# Altium footprint library rcl.PCBLIB: 487 footprints (part 17 of 31)
Each footprint in its own frame and in the unit in brackets; x right, y up, seen from the top. Pads: shape width x height; smd on the part's side, far side on the other; paste and mask are expansions set on the pad; w line width, h text height; cw(c..) or ccw(c..) is an arc to the next point about the centre after c.
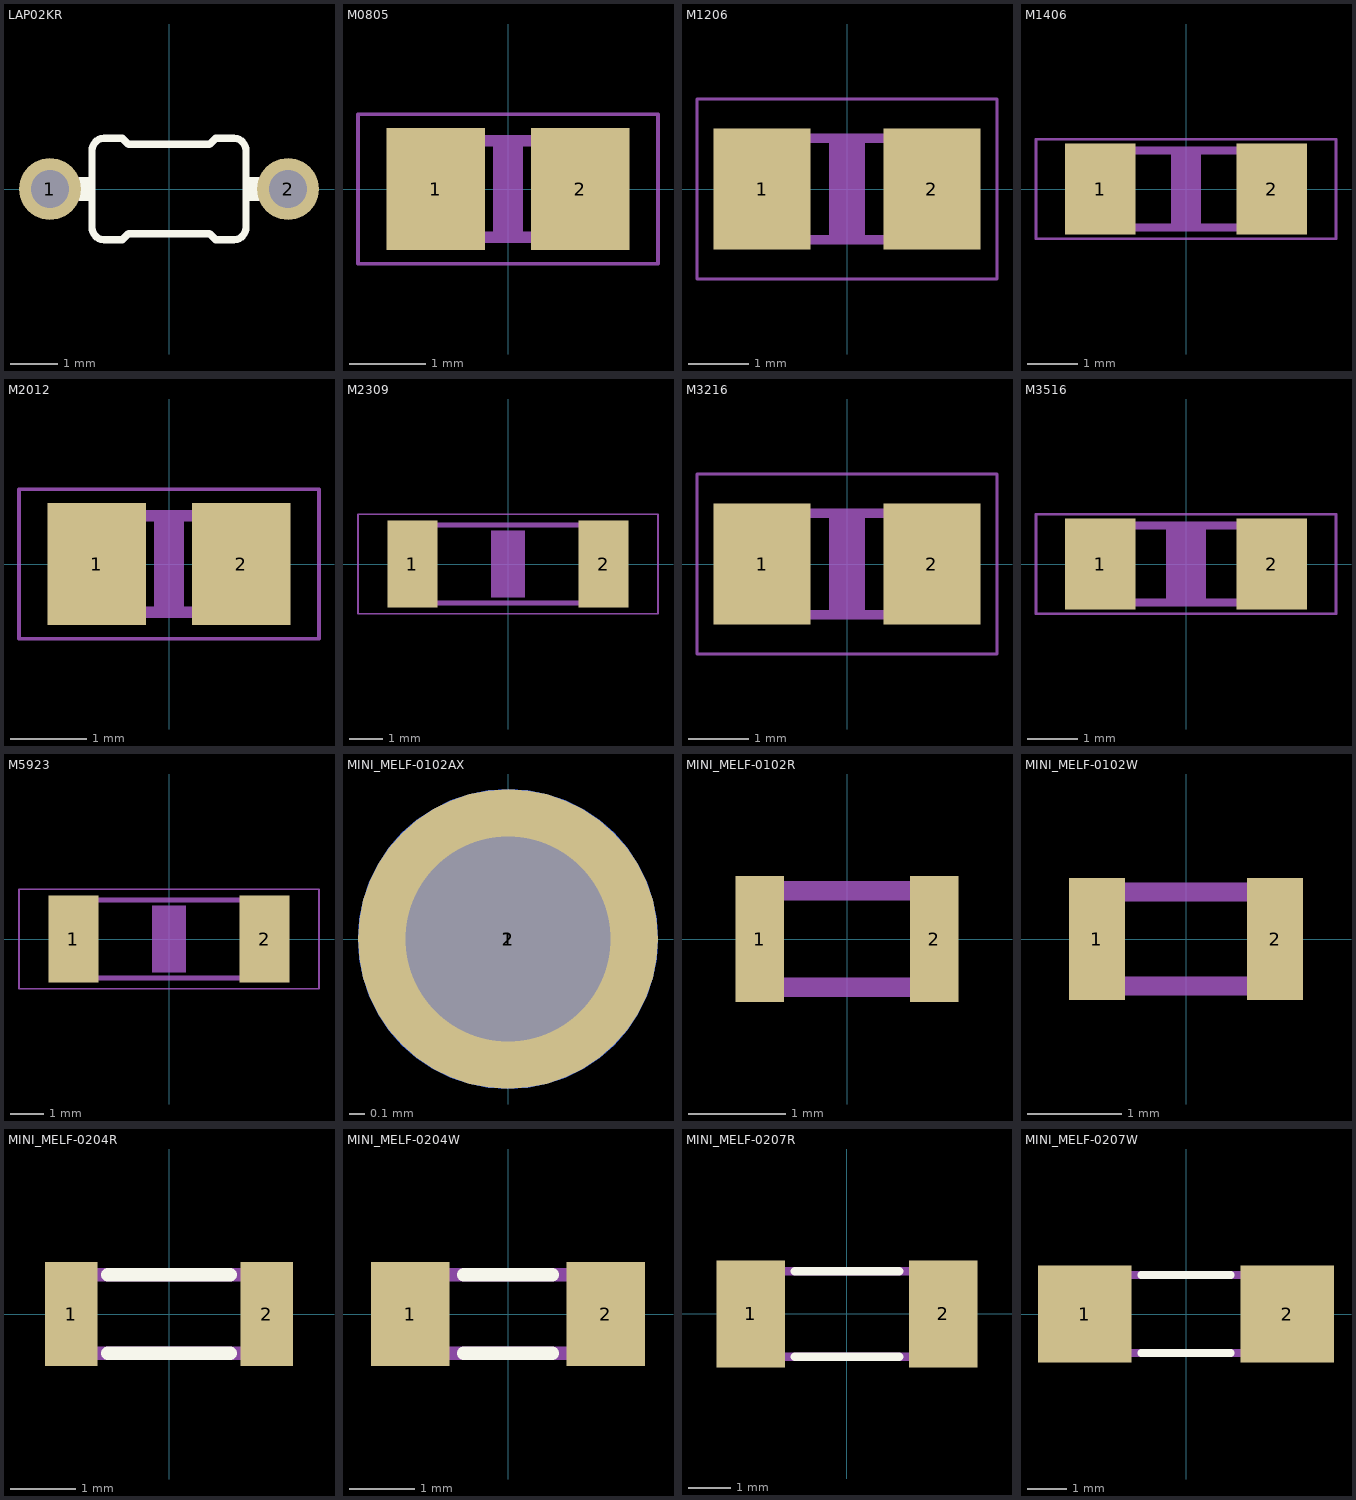
[diagram p16: the footprints below, top view; thin cyan lines are the x and y axes]

## LAP02KR [mil]
pads (2):
  round 51.18 hole 31.5: 1(-98.43,0) 2(98.43,0)
Top Overlay:
  rectangle: -74.8,-10 -63.58,10
  rectangle: 63.58,-10 74.8,10
  lines w6: -63.58,-31.97 ccw(c-53.58,-31.97) -53.58,-41.97 -38.58,-41.97 -33.58,-36.97 33.58,-36.97 38.58,-41.97 53.58,-41.97 ccw(c53.58,-31.97) 63.58,-31.97 63.58,31.97 ccw(c53.58,31.97) 53.58,41.97 38.58,41.97 33.58,36.97 -33.58,36.97 -38.58,41.97 -53.58,41.97 ccw(c-53.58,31.97) -63.58,31.97 -63.58,-31.97
Mechanical 16:
  lines w20: -98.43,0 -75,0 ; 75,0 98.43,0

## M0805 [mil]
pads (2):
  rect 51.18x62.99 smd: 1(-37.4,0) 2(37.4,0)
Mechanical 6:
  rectangle: -7.87,-23.62 7.87,23.62
Mechanical 16:
  rectangle: 27,-28 41,28
  rectangle: -41,-28 -27,28
  lines w6: -28,-25 28,-25 ; -28,25 28,25
Mechanical 27:
  lines w2: -77.68,-38.7 -77.68,38.7 77.68,38.7 77.68,-38.7 -77.68,-38.7
3D body "User Library-Generic 0805 Chip Resistor.STEP": height 29.53, standoff 0, extent -45.27,-26.57 45.28,26.59

## M1206 [mm]
pads (2):
  rect 1.6x2 smd: 1(-1.4,0) 2(1.4,0)
Mechanical 6:
  rectangle: -0.3,-0.8 0.3,0.8
Mechanical 16:
  rectangle: -1.702,-0.914 -1.118,0.914
  rectangle: 1.118,-0.914 1.702,0.914
  lines w0.152: -1.143,-0.838 1.143,-0.838 ; -1.143,0.838 1.143,0.838
Mechanical 27:
  lines w0.051: -2.473,-1.483 2.473,-1.483 2.473,1.483 -2.473,1.483 -2.473,-1.483

## M1406 [mil]
pads (2):
  rect 55.12x70.87 smd: 1(-66.93,0) 2(66.93,0)
Mechanical 6:
  rectangle: -11.81,-27.56 11.81,27.56
Mechanical 16:
  rectangle: 51,-33 73,33
  rectangle: -73,-33 -51,33
  lines w6: -52,-30 52,-30 ; -52,30 52,30
Mechanical 27:
  lines w2: -117.05,-38.7 -117.05,38.7 117.05,38.7 117.05,-38.7 -117.05,-38.7

## M2012 [mil]
pads (2):
  rect 51.18x62.99 smd: 1(-37.4,0) 2(37.4,0)
Mechanical 6:
  rectangle: -7.87,-23.62 7.87,23.62
Mechanical 16:
  rectangle: 27,-28 41,28
  rectangle: -41,-28 -27,28
  lines w6: -28,-25 28,-25 ; -28,25 28,25
Mechanical 27:
  lines w2: -77.68,-38.7 -77.68,38.7 77.68,38.7 77.68,-38.7 -77.68,-38.7

## M2309 [mil]
pads (2):
  rect 59.06x102.36 smd: 1(-112.2,0) 2(112.2,0)
Mechanical 6:
  rectangle: -19.69,-39.37 19.69,39.37
Mechanical 16:
  rectangle: -120,-49 -94,49
  rectangle: 94,-49 120,49
  lines w6: -96,46 95,46 ; -95,-46 95,-46
Mechanical 27:
  lines w2: -176.1,-58.39 176.1,-58.39 176.1,58.39 -176.1,58.39 -176.1,-58.39

## M3216 [mm]
pads (2):
  rect 1.6x2 smd: 1(-1.4,0) 2(1.4,0)
Mechanical 6:
  rectangle: -0.3,-0.8 0.3,0.8
Mechanical 16:
  rectangle: 1.118,-0.914 1.702,0.914
  rectangle: -1.702,-0.914 -1.118,0.914
  lines w0.152: -1.143,-0.838 1.143,-0.838 ; -1.143,0.838 1.143,0.838
Mechanical 27:
  lines w0.051: -2.473,-1.483 -2.473,1.483 2.473,1.483 2.473,-1.483 -2.473,-1.483

## M3516 [mil]
pads (2):
  rect 55.12x70.87 smd: 1(-66.93,0) 2(66.93,0)
Mechanical 6:
  rectangle: -15.75,-27.56 15.75,27.56
Mechanical 16:
  rectangle: -73,-33 -51,33
  rectangle: 51,-33 73,33
  lines w6: -52,-30 52,-30 ; -52,30 52,30
Mechanical 27:
  lines w2: -117.05,-38.7 117.05,-38.7 117.05,38.7 -117.05,38.7 -117.05,-38.7

## M5923 [mil]
pads (2):
  rect 59.06x102.36 smd: 1(-112.2,0) 2(112.2,0)
Mechanical 6:
  rectangle: -19.69,-39.37 19.69,39.37
Mechanical 16:
  rectangle: -120,-49 -94,49
  rectangle: 94,-49 120,49
  lines w6: -96,46 95,46 ; -95,-46 95,-46
Mechanical 27:
  lines w2: -176.1,-58.39 176.1,-58.39 176.1,58.39 -176.1,58.39 -176.1,-58.39

## MINI_MELF-0102AX [mil]
pads (3):
  rrect100% 74.8x74.8 smd: 1(0,0)
  round 51.18 hole 51.18: 1(0,0)
  rrect100% 74.8x74.8 smd far side: 2(0,0)
Mechanical 16:
  circle w0: c0,0 r23.62
Mechanical 30:
  circle w0: c0,0 r23.62

## MINI_MELF-0102R [mil]
pads (2):
  rect 19.69x51.18 smd: 1(-35.43,0) 2(35.43,0)
Mechanical 16:
  lines w8: -39.37,-19.69 39.37,-19.69 39.37,19.69 -39.37,19.69 -39.37,-19.69

## MINI_MELF-0102W [mil]
pads (2):
  rect 23.62x51.18 smd: 1(-37.4,0) 2(37.4,0)
Mechanical 16:
  lines w8: -39.37,-19.69 39.37,-19.69 39.37,19.69 -39.37,19.69 -39.37,-19.69

## MINI_MELF-0204R [mil]
pads (2):
  rect 31.5x62.99 smd: 1(-59.06,0) 2(59.06,0)
Top Overlay:
  lines w8: -36.93,-23.62 36.93,-23.62 ; -36.93,23.62 36.93,23.62
Mechanical 16:
  lines w8: -66.93,-23.62 66.93,-23.62 66.93,23.62 -66.93,23.62 -66.93,-23.62

## MINI_MELF-0204W [mil]
pads (2):
  rect 47.24x62.99 smd: 1(-59.06,0) 2(59.06,0)
Top Overlay:
  lines w8: -26.93,-23.62 26.93,-23.62 ; -26.93,23.62 26.93,23.62
Mechanical 16:
  lines w8: -66.93,-23.62 66.93,-23.62 66.93,23.62 -66.93,23.62 -66.93,-23.62

## MINI_MELF-0207R [mil]
pads (2):
  rect 62.99x98.43 smd: 1(-88.58,0) 2(88.58,0)
Top Overlay:
  lines w8: -47.74,-39.37 47.74,-39.37 ; -47.74,39.37 47.74,39.37
Mechanical 16:
  lines w8: -110.24,-39.37 110.24,-39.37 110.24,39.37 -110.24,39.37 -110.24,-39.37

## MINI_MELF-0207W [mil]
pads (2):
  rect 94.49x98.43 smd: 1(-102.36,0) 2(102.36,0)
Top Overlay:
  lines w8: -45.24,-39.37 45.24,-39.37 ; -45.24,39.37 45.24,39.37
Mechanical 16:
  lines w8: -110.24,-39.37 110.24,-39.37 110.24,39.37 -110.24,39.37 -110.24,-39.37